# EAGLE library part 61001018221 (library Wuerth_Elektronik_eiCan_Pin_&_Socked_Headers_v1.3)
WR-PHD 2.54mm SMT Pin Header, 10 Pins
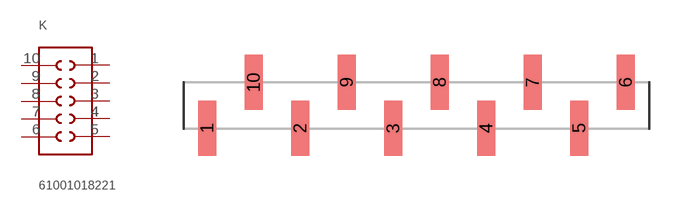
[diagram p77: symbol with the pads of 61001018221; footprint 61001018221]

Designator prefix K

## 61001018221  [61001018221]
1  10  pas
2  9  pas
3  8  pas
4  7  pas
5  6  pas
6  5  pas
7  4  pas
8  3  pas
9  2  pas
10  1  pas

## Footprint 61001018221 (pad centres in mm)
WR-PHD 2.54mm SMT Pin Header, 10 Pins
smd 1 x 3: 1 -11.43,-1.25; 2 -6.35,-1.25; 3 -1.27,-1.25; 4 3.81,-1.25; 5 8.89,-1.25; 6 11.43,1.25; 7 6.35,1.25; 8 1.27,1.25; 9 -3.81,1.25; 10 -8.89,1.25